# EAGLE library part MAX152 (library MAX152)
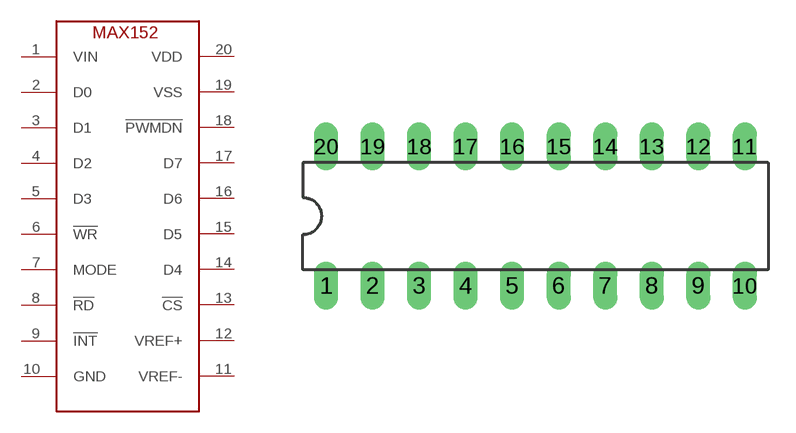
[diagram p0: symbol with the pads of DIL20; footprint DIL20]

Designator prefix -

## MAX152  [DIL20]
1  VIN
2  D0
3  D1
4  D2
5  D3
6  !WR
7  MODE
8  !RD
9  !INT
10  GND
11  VREF-
12  VREF+
13  !CS
14  D4
15  D5
16  D6
17  D7
18  !PWMDN
19  VSS
20  VDD

## Footprint DIL20 (pad centres in mm)
Dual In Line Package
drill 0.813 long: 1 -11.43,-3.81; 2 -8.89,-3.81; 3 -6.35,-3.81; 4 -3.81,-3.81; 5 -1.27,-3.81; 6 1.27,-3.81; 7 3.81,-3.81; 8 6.35,-3.81; 9 8.89,-3.81; 10 11.43,-3.81; 11 11.43,3.81; 12 8.89,3.81; 13 6.35,3.81; 14 3.81,3.81; 15 1.27,3.81; 16 -1.27,3.81; 17 -3.81,3.81; 18 -6.35,3.81; 19 -8.89,3.81; 20 -11.43,3.81